# EAGLE library part B3W-9000-B1N (library keves)
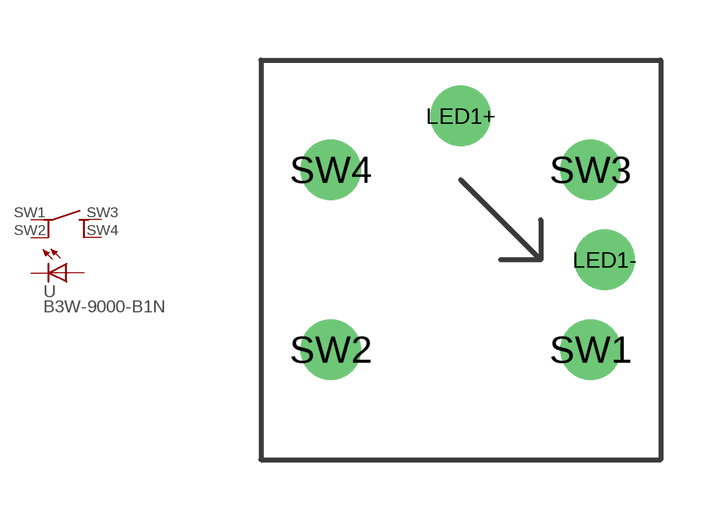
[diagram p38: symbol with the pads of B3W-9000-X1X; footprint B3W-9000-X1X]

Designator prefix -

## B3W-9000-B1N  [B3W-9000-X1X]
LED1+  LED1+  pas
LED1-  LED1-  pas
SW1  SW1_A  pas
SW2  SW1_B  pas
SW3  SW2_A  pas
SW4  SW2_B  pas

## Footprint B3W-9000-X1X (pad centres in mm)
drill 1: LED1+ 0,3.6; LED1- 3.6,0; SW1 3.25,-2.25; SW2 -3.25,-2.25; SW3 3.25,2.25; SW4 -3.25,2.25